# Altium schematic symbol library MIC2876.SchLib: 1 symbol
Pins are listed as number, name and electrical type; pins without a type are passive.

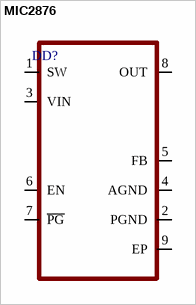
[diagram p0: symbol MIC2876]

## MIC2876
designator DD?
pins: 1 SW, 2 PGND, 3 VIN, 4 AGND, 5 FB, 6 EN, 7 ~{PG}, 8 OUT, 9 EP